# Altium integrated library Maxim Sensors.IntLib: 1171 symbols (part 23 of 61)
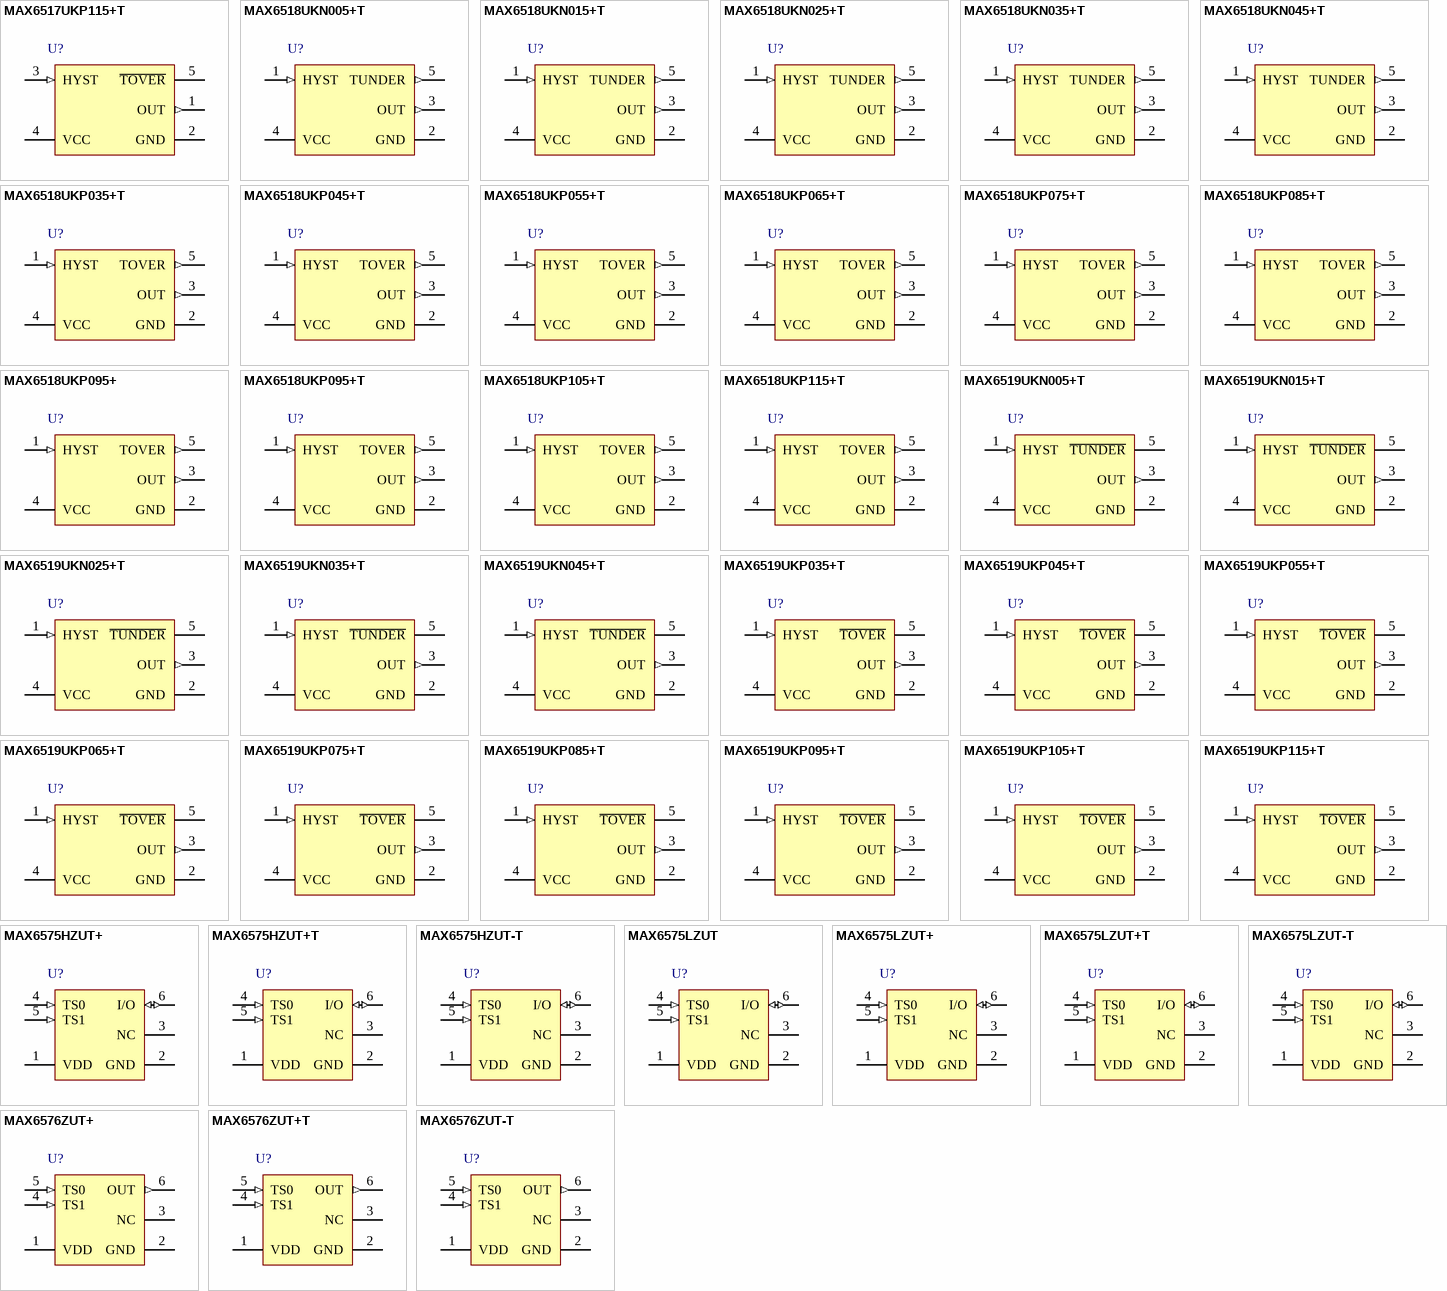
[diagram p55: symbols MAX6517UKP115+T to MAX6576ZUT-T]

## MAX6575LZUT+T
designator U?
Temperature Sensor with Multidrop Single Wire Digital Interface, -40 to 125 degC, 6-Pin SOT23 (U6+4), Pb-Free, Tape and Reel; Generic Part Number: MAX6575; PartNumber: MAX6575LZUT+T; Interface: Pulse Delay; Multi Droppable: Yes; Parasite Pwr.: No; DatasheetVersion: Rev. 0; PackageVersion: Rev. N, 08/2012; PackageReference: U6+4; PackageDescription: 6-Pin Small-Outline Transistor Package, Body 1.625 x 2.9 mm, Pitch 0.95 mm; Supplier 1: Digi-Key; Supplier Part Number 1: MAX6575LZUT+TTR-ND; Supplier 2: Digi-Key; Supplier Part Number 2: MAX6575LZUT+TCT-ND; Supplier 3: Digi-Key; Supplier Part Number 3: MAX6575LZUT+TDKR-ND; Supplier 4: Mouser; Supplier Part Number 4: 700-MAX6575LZUTT; Packing: Tape and Reel; Mounting Technology: Surface Mount; Code_JEDEC: MO-178; ComponentLink1Description: Manufacturer URL; ComponentLink1URL: http://www.maximintegrated.com/; ComponentLink2Description: Datasheet; ComponentLink2URL: http://datasheets.maximintegrated.com/en/ds/MAX6575H-MAX6575L.pdf; ComponentLink3Description: Package Specification; ComponentLink3URL: http://pdfserv.maximintegrated.com/package_dwgs/21-0058.PDF
footprint MAXM-U6+4_N (SOT23, 6-Leads, Body 2.9x1.625mm, Pitch 0.95mm, IPC Medium Density)
footprint MAXM-U6+4_L (SOT23, 6-Leads, Body 2.9x1.625mm, Pitch 0.95mm, IPC High Density)
footprint MAXM-U6+4_M (SOT23, 6-Leads, Body 2.9x1.625mm, Pitch 0.95mm, IPC Low Density)
pins: 1 VDD (power) "Positive Supply Voltage", 2 GND (power) "Ground", 3 NC "No Connection. Connect pin to GND or leave open.", 4 TS0 (in) "Time-Select Pins.Set the time delay factor by connecting TS1 and TS0 to either VDD or GND.", 5 TS1 (in) "Time-Select Pins.Set the time delay factor by connecting TS1 and TS0 to either VDD or GND.", 6 I/O (io) "Bidirectional Interface Pin. A time delay between when the part is initiated externally by pulling I/O low and when the part subsequently pulls I/O low, is proportional to absolute temperature (degreesK)."

## MAX6575LZUT-T
designator U?
Temperature Sensor with Multidrop Single Wire Digital Interface, -40 to 125 degC, 6-Pin SOT23 (U6-4), Tape and Reel; Generic Part Number: MAX6575; PartNumber: MAX6575LZUT-T; Interface: Pulse Delay; Multi Droppable: Yes; Parasite Pwr.: No; DatasheetVersion: Rev. 0; PackageVersion: Rev. N, 08/2012; PackageReference: U6-4; PackageDescription: 6-Pin Small-Outline Transistor Package, Body 1.625 x 2.9 mm, Pitch 0.95 mm; Supplier 1: Mouser; Supplier Part Number 1: N/A; Packing: Tape and Reel; Mounting Technology: Surface Mount; Code_JEDEC: MO-178; ComponentLink1Description: Manufacturer URL; ComponentLink1URL: http://www.maximintegrated.com/; ComponentLink2Description: Datasheet; ComponentLink2URL: http://datasheets.maximintegrated.com/en/ds/MAX6575H-MAX6575L.pdf; ComponentLink3Description: Package Specification; ComponentLink3URL: http://pdfserv.maximintegrated.com/package_dwgs/21-0058.PDF
footprint MAXM-U6-4_N (SOT23, 6-Leads, Body 2.9x1.625mm, Pitch 0.95mm, IPC Medium Density)
footprint MAXM-U6-4_L (SOT23, 6-Leads, Body 2.9x1.625mm, Pitch 0.95mm, IPC High Density)
footprint MAXM-U6-4_M (SOT23, 6-Leads, Body 2.9x1.625mm, Pitch 0.95mm, IPC Low Density)
pins: 1 VDD (power) "Positive Supply Voltage", 2 GND (power) "Ground", 3 NC "No Connection. Connect pin to GND or leave open.", 4 TS0 (in) "Time-Select Pins.Set the time delay factor by connecting TS1 and TS0 to either VDD or GND.", 5 TS1 (in) "Time-Select Pins.Set the time delay factor by connecting TS1 and TS0 to either VDD or GND.", 6 I/O (io) "Bidirectional Interface Pin. A time delay between when the part is initiated externally by pulling I/O low and when the part subsequently pulls I/O low, is proportional to absolute temperature (degreesK)."

## MAX6576ZUT+
designator U?
Temperature Sensor with Period Output, -40 to 125 degC, 6-Pin SOT23 (U6+4), Pb-Free; Generic Part Number: MAX6576; PartNumber: MAX6576ZUT+; Interface: Period u Temp.; Parasite Pwr.: No; DatasheetVersion: Rev. 0; PackageVersion: Rev. N, 08/2012; PackageReference: U6+4; PackageDescription: 6-Pin Small-Outline Transistor Package, Body 1.625 x 2.9 mm, Pitch 0.95 mm; Supplier 1: Mouser; Supplier Part Number 1: N/A; Mounting Technology: Surface Mount; Code_JEDEC: MO-178; ComponentLink1Description: Manufacturer URL; ComponentLink1URL: http://www.maximintegrated.com/; ComponentLink2Description: Datasheet; ComponentLink2URL: http://datasheets.maximintegrated.com/en/ds/MAX6576-MAX6577.pdf; ComponentLink3Description: Package Specification; ComponentLink3URL: http://pdfserv.maximintegrated.com/package_dwgs/21-0058.PDF
footprint MAXM-U6+4_N (SOT23, 6-Leads, Body 2.9x1.625mm, Pitch 0.95mm, IPC Medium Density)
footprint MAXM-U6+4_L (SOT23, 6-Leads, Body 2.9x1.625mm, Pitch 0.95mm, IPC High Density)
footprint MAXM-U6+4_M (SOT23, 6-Leads, Body 2.9x1.625mm, Pitch 0.95mm, IPC Low Density)
pins: 1 VDD (power) "Positive Supply Voltage", 2 GND (power) "Ground", 3 NC "No Connection. Connect pin to GND or leave open.", 4 TS1 (in) "Time-Select Pins. TS1 and TS0 set the temperature scale factor by connecting TS1 and TS0 to either VDD or GND.", 5 TS0 (in) "Time-Select Pins. TS1 and TS0 set the temperature scale factor by connecting TS1 and TS0 to either VDD or GND.", 6 OUT (out) "Square-Wave Output with a Clock Period Proportional to Absolute Temperature (degreesK) (MAX6576)"

## MAX6576ZUT+T
designator U?
Temperature Sensor with Period Output, -40 to 125 degC, 6-Pin SOT23 (U6+4), Pb-Free, Tape and Reel; Generic Part Number: MAX6576; PartNumber: MAX6576ZUT+T; Interface: Period u Temp.; Parasite Pwr.: No; DatasheetVersion: Rev. 0; PackageVersion: Rev. N, 08/2012; PackageReference: U6+4; PackageDescription: 6-Pin Small-Outline Transistor Package, Body 1.625 x 2.9 mm, Pitch 0.95 mm; Supplier 1: Digi-Key; Supplier Part Number 1: MAX6576ZUT+TTR-ND; Supplier 2: Digi-Key; Supplier Part Number 2: MAX6576ZUT+TCT-ND; Supplier 3: Digi-Key; Supplier Part Number 3: MAX6576ZUT+TDKR-ND; Supplier 4: Farnell; Supplier Part Number 4: 2085160; Supplier 5: Newark; Supplier Part Number 5: 89T8849; Supplier 6: Newark; Supplier Part Number 6: 68K9454; Supplier 7: Mouser; Supplier Part Number 7: 700-MAX6576ZUTT; Packing: Tape and Reel; Mounting Technology: Surface Mount; Code_JEDEC: MO-178; ComponentLink1Description: Manufacturer URL; ComponentLink1URL: http://www.maximintegrated.com/; ComponentLink2Description: Datasheet; ComponentLink2URL: http://datasheets.maximintegrated.com/en/ds/MAX6576-MAX6577.pdf; ComponentLink3Description: Package Specification; ComponentLink3URL: http://pdfserv.maximintegrated.com/package_dwgs/21-0058.PDF
footprint MAXM-U6+4_N (SOT23, 6-Leads, Body 2.9x1.625mm, Pitch 0.95mm, IPC Medium Density)
footprint MAXM-U6+4_L (SOT23, 6-Leads, Body 2.9x1.625mm, Pitch 0.95mm, IPC High Density)
footprint MAXM-U6+4_M (SOT23, 6-Leads, Body 2.9x1.625mm, Pitch 0.95mm, IPC Low Density)
pins: 1 VDD (power) "Positive Supply Voltage", 2 GND (power) "Ground", 3 NC "No Connection. Connect pin to GND or leave open.", 4 TS1 (in) "Time-Select Pins. TS1 and TS0 set the temperature scale factor by connecting TS1 and TS0 to either VDD or GND.", 5 TS0 (in) "Time-Select Pins. TS1 and TS0 set the temperature scale factor by connecting TS1 and TS0 to either VDD or GND.", 6 OUT (out) "Square-Wave Output with a Clock Period Proportional to Absolute Temperature (degreesK) (MAX6576)"

## MAX6576ZUT-T
designator U?
Temperature Sensor with Period Output, -40 to 125 degC, 6-Pin SOT23 (U6-4), Tape and Reel; Generic Part Number: MAX6576; PartNumber: MAX6576ZUT-T; Interface: Period u Temp.; Parasite Pwr.: No; DatasheetVersion: Rev. 0; PackageVersion: Rev. N, 08/2012; PackageReference: U6-4; PackageDescription: 6-Pin Small-Outline Transistor Package, Body 1.625 x 2.9 mm, Pitch 0.95 mm; Supplier 1: Mouser; Supplier Part Number 1: N/A; Packing: Tape and Reel; Mounting Technology: Surface Mount; Code_JEDEC: MO-178; ComponentLink1Description: Manufacturer URL; ComponentLink1URL: http://www.maximintegrated.com/; ComponentLink2Description: Datasheet; ComponentLink2URL: http://datasheets.maximintegrated.com/en/ds/MAX6576-MAX6577.pdf; ComponentLink3Description: Package Specification; ComponentLink3URL: http://pdfserv.maximintegrated.com/package_dwgs/21-0058.PDF
footprint MAXM-U6-4_N (SOT23, 6-Leads, Body 2.9x1.625mm, Pitch 0.95mm, IPC Medium Density)
footprint MAXM-U6-4_L (SOT23, 6-Leads, Body 2.9x1.625mm, Pitch 0.95mm, IPC High Density)
footprint MAXM-U6-4_M (SOT23, 6-Leads, Body 2.9x1.625mm, Pitch 0.95mm, IPC Low Density)
pins: 1 VDD (power) "Positive Supply Voltage", 2 GND (power) "Ground", 3 NC "No Connection. Connect pin to GND or leave open.", 4 TS1 (in) "Time-Select Pins. TS1 and TS0 set the temperature scale factor by connecting TS1 and TS0 to either VDD or GND.", 5 TS0 (in) "Time-Select Pins. TS1 and TS0 set the temperature scale factor by connecting TS1 and TS0 to either VDD or GND.", 6 OUT (out) "Square-Wave Output with a Clock Period Proportional to Absolute Temperature (degreesK) (MAX6576)"

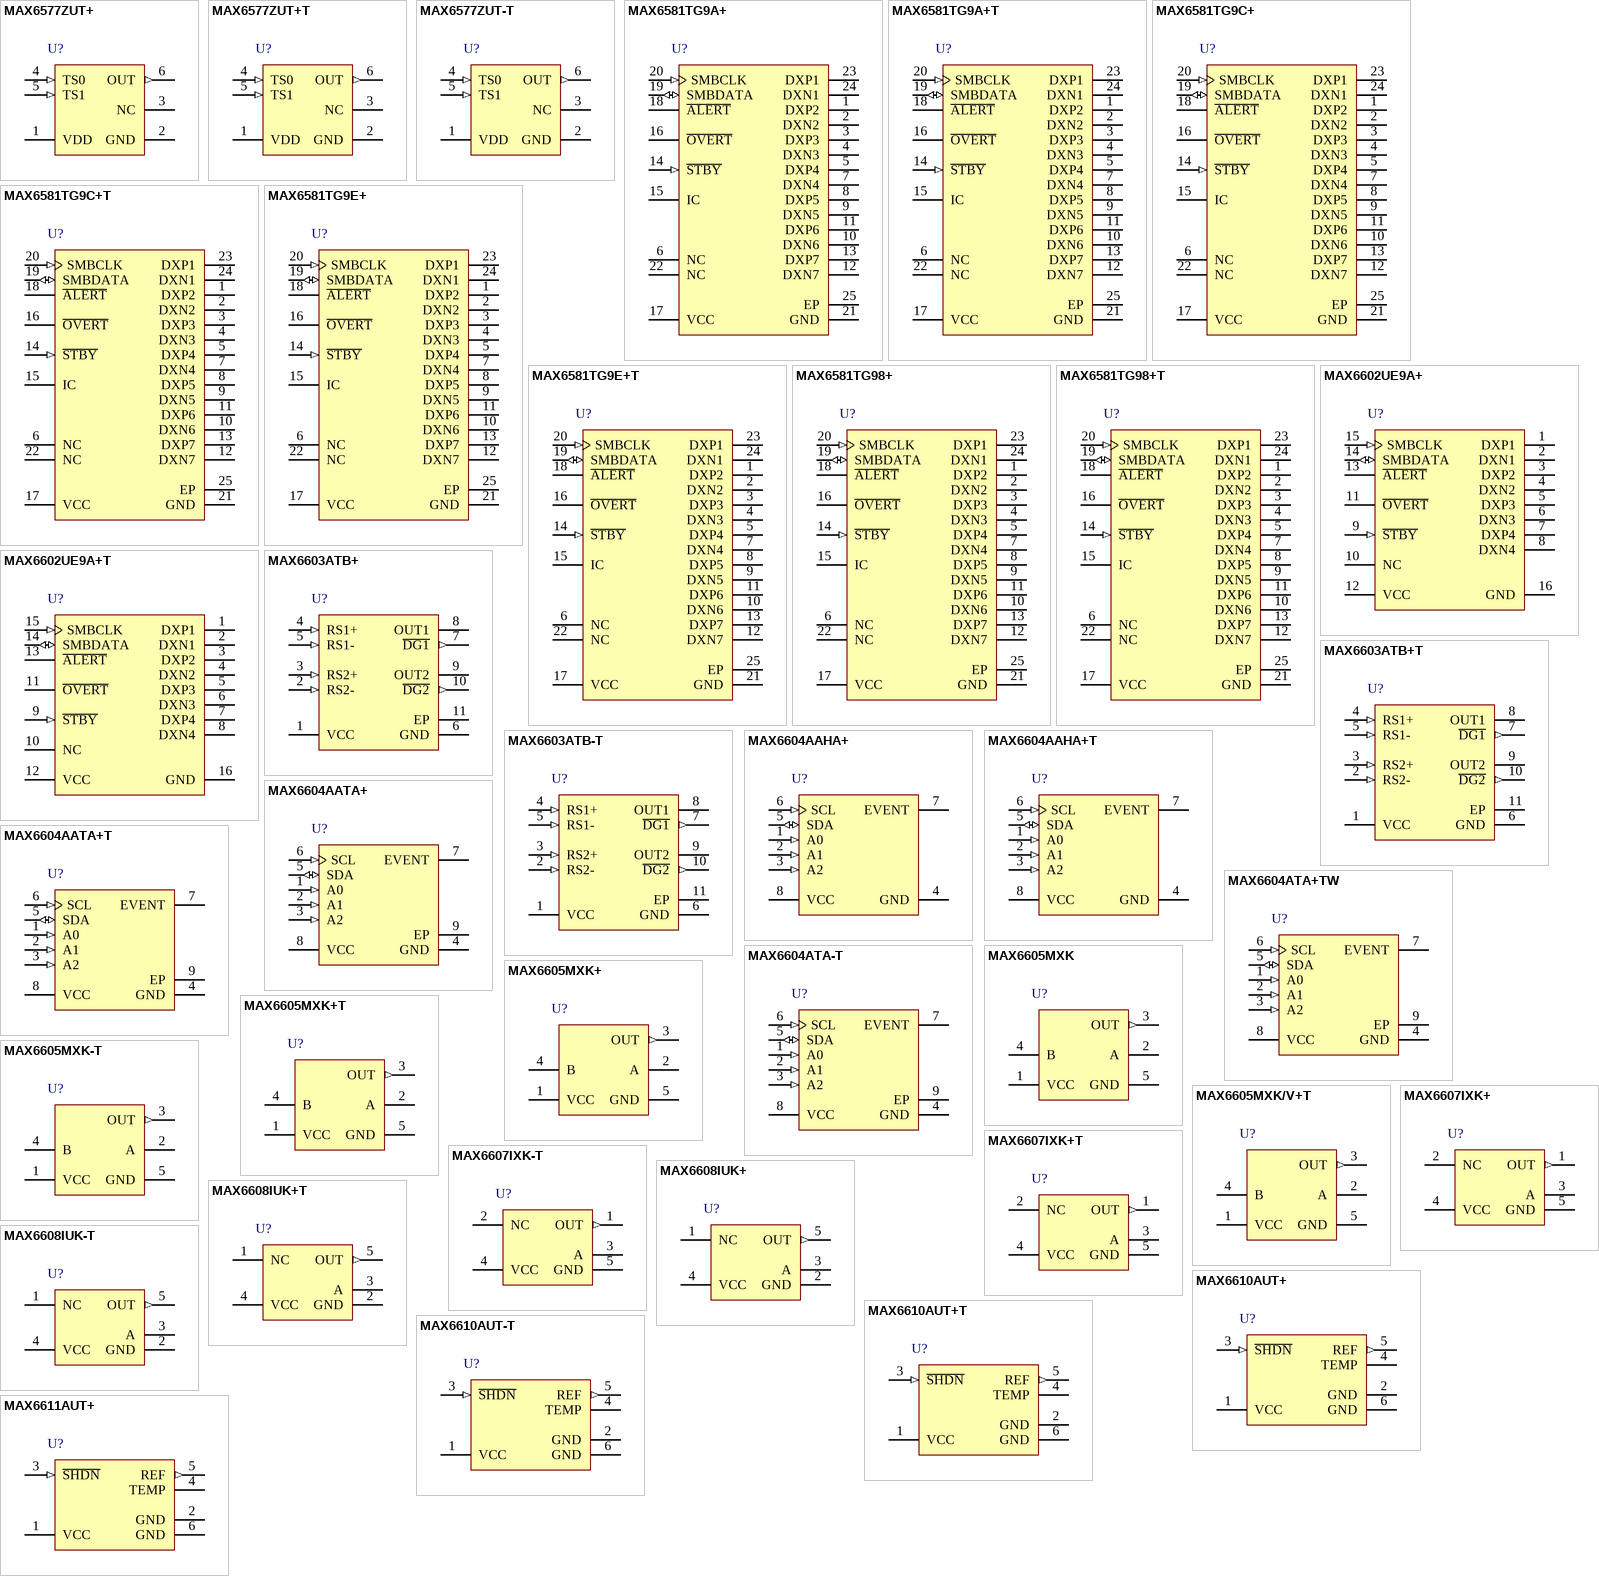
[diagram p14: symbols MAX6577ZUT+ to MAX6611AUT+]

## MAX6577ZUT+
designator U?
Temperature Sensor with Frequency Output, -40 to 125 degC, 6-Pin SOT23 (U6+4), Pb-Free; Generic Part Number: MAX6577; PartNumber: MAX6577ZUT+; Interface: Freq. u Temp.; Parasite Pwr.: No; DatasheetVersion: Rev. 0; PackageVersion: Rev. N, 08/2012; PackageReference: U6+4; PackageDescription: 6-Pin Small-Outline Transistor Package, Body 1.625 x 2.9 mm, Pitch 0.95 mm; Supplier 1: Mouser; Supplier Part Number 1: N/A; Mounting Technology: Surface Mount; Code_JEDEC: MO-178; ComponentLink1Description: Manufacturer URL; ComponentLink1URL: http://www.maximintegrated.com/; ComponentLink2Description: Datasheet; ComponentLink2URL: http://datasheets.maximintegrated.com/en/ds/MAX6576-MAX6577.pdf; ComponentLink3Description: Package Specification; ComponentLink3URL: http://pdfserv.maximintegrated.com/package_dwgs/21-0058.PDF
footprint MAXM-U6+4_N (SOT23, 6-Leads, Body 2.9x1.625mm, Pitch 0.95mm, IPC Medium Density)
footprint MAXM-U6+4_L (SOT23, 6-Leads, Body 2.9x1.625mm, Pitch 0.95mm, IPC High Density)
footprint MAXM-U6+4_M (SOT23, 6-Leads, Body 2.9x1.625mm, Pitch 0.95mm, IPC Low Density)
pins: 1 VDD (power) "Positive Supply Voltage", 2 GND (power) "Ground", 3 NC "No Connection. Connect pin to GND or leave open.", 4 TS0 (in) "Time-Select Pins. TS1 and TS0 set the temperature scale factor by connecting TS1 and TS0 to either VDD or GND. See Tables 1 and 2.", 5 TS1 (in) "Time-Select Pins. TS1 and TS0 set the temperature scale factor by connecting TS1 and TS0 to either VDD or GND. See Tables 1 and 2.", 6 OUT (out) "Square-Wave Output with a Clock Frequency Proportional to Absolute Temperature (degreesK) (MAX6577)"

## MAX6577ZUT+T
designator U?
Temperature Sensor with Frequency Output, -40 to 125 degC, 6-Pin SOT23 (U6+4), Pb-Free, Tape and Reel; Generic Part Number: MAX6577; PartNumber: MAX6577ZUT+T; Interface: Freq. u Temp.; Parasite Pwr.: No; DatasheetVersion: Rev. 0; PackageVersion: Rev. N, 08/2012; PackageReference: U6+4; PackageDescription: 6-Pin Small-Outline Transistor Package, Body 1.625 x 2.9 mm, Pitch 0.95 mm; Supplier 1: Digi-Key; Supplier Part Number 1: MAX6577ZUT+TTR-ND; Supplier 2: Digi-Key; Supplier Part Number 2: MAX6577ZUT+TCT-ND; Supplier 3: Digi-Key; Supplier Part Number 3: MAX6577ZUT+TDKR-ND; Supplier 4: Mouser; Supplier Part Number 4: 700-MAX6577ZUTT; Packing: Tape and Reel; Mounting Technology: Surface Mount; Code_JEDEC: MO-178; ComponentLink1Description: Manufacturer URL; ComponentLink1URL: http://www.maximintegrated.com/; ComponentLink2Description: Datasheet; ComponentLink2URL: http://datasheets.maximintegrated.com/en/ds/MAX6576-MAX6577.pdf; ComponentLink3Description: Package Specification; ComponentLink3URL: http://pdfserv.maximintegrated.com/package_dwgs/21-0058.PDF
footprint MAXM-U6+4_N (SOT23, 6-Leads, Body 2.9x1.625mm, Pitch 0.95mm, IPC Medium Density)
footprint MAXM-U6+4_L (SOT23, 6-Leads, Body 2.9x1.625mm, Pitch 0.95mm, IPC High Density)
footprint MAXM-U6+4_M (SOT23, 6-Leads, Body 2.9x1.625mm, Pitch 0.95mm, IPC Low Density)
pins: 1 VDD (power) "Positive Supply Voltage", 2 GND (power) "Ground", 3 NC "No Connection. Connect pin to GND or leave open.", 4 TS0 (in) "Time-Select Pins. TS1 and TS0 set the temperature scale factor by connecting TS1 and TS0 to either VDD or GND. See Tables 1 and 2.", 5 TS1 (in) "Time-Select Pins. TS1 and TS0 set the temperature scale factor by connecting TS1 and TS0 to either VDD or GND. See Tables 1 and 2.", 6 OUT (out) "Square-Wave Output with a Clock Frequency Proportional to Absolute Temperature (degreesK) (MAX6577)"

## MAX6577ZUT-T
designator U?
Temperature Sensor with Frequency Output, -40 to 125 degC, 6-Pin SOT23 (U6-4), Tape and Reel; Generic Part Number: MAX6577; PartNumber: MAX6577ZUT-T; Interface: Freq. u Temp.; Parasite Pwr.: No; DatasheetVersion: Rev. 0; PackageVersion: Rev. N, 08/2012; PackageReference: U6-4; PackageDescription: 6-Pin Small-Outline Transistor Package, Body 1.625 x 2.9 mm, Pitch 0.95 mm; Supplier 1: Digi-Key; Supplier Part Number 1: MAX6577ZUT-ND; Supplier 2: Mouser; Supplier Part Number 2: N/A; Packing: Tape and Reel; Mounting Technology: Surface Mount; Code_JEDEC: MO-178; ComponentLink1Description: Manufacturer URL; ComponentLink1URL: http://www.maximintegrated.com/; ComponentLink2Description: Datasheet; ComponentLink2URL: http://datasheets.maximintegrated.com/en/ds/MAX6576-MAX6577.pdf; ComponentLink3Description: Package Specification; ComponentLink3URL: http://pdfserv.maximintegrated.com/package_dwgs/21-0058.PDF
footprint MAXM-U6-4_N (SOT23, 6-Leads, Body 2.9x1.625mm, Pitch 0.95mm, IPC Medium Density)
footprint MAXM-U6-4_L (SOT23, 6-Leads, Body 2.9x1.625mm, Pitch 0.95mm, IPC High Density)
footprint MAXM-U6-4_M (SOT23, 6-Leads, Body 2.9x1.625mm, Pitch 0.95mm, IPC Low Density)
pins: 1 VDD (power) "Positive Supply Voltage", 2 GND (power) "Ground", 3 NC "No Connection. Connect pin to GND or leave open.", 4 TS0 (in) "Time-Select Pins. TS1 and TS0 set the temperature scale factor by connecting TS1 and TS0 to either VDD or GND. See Tables 1 and 2.", 5 TS1 (in) "Time-Select Pins. TS1 and TS0 set the temperature scale factor by connecting TS1 and TS0 to either VDD or GND. See Tables 1 and 2.", 6 OUT (out) "Square-Wave Output with a Clock Frequency Proportional to Absolute Temperature (degreesK) (MAX6577)"

## MAX6581TG9A+
designator U?
+ / -1 degC Accurate 8-Channel Temperature Sensor, 8, 11 Bits Temperature Resolution, -40 to 125 degC, 24-Pin QFN (T2444+4), Pb-Free; Generic Part Number: MAX6581; PartNumber: MAX6581TG9A+; Alarm Output: Alert, Overt; Functions: Dual Temperature Alarms, Multi-Channel Temperature Monitor ,Remote & Local Sensor; Interface: 2-Wire/I2C/SMBus; Parasite Pwr.: No; DatasheetVersion: Rev. 0; PackageVersion: Rev. L, 04/2012; PackageReference: T2444+4; PackageDescription: 24-Pin Thin Quad Flatpack, No Leads, Body 4 x 4 mm, Pitch 0.5 mm; Supplier 1: Digi-Key; Supplier Part Number 1: MAX6581TG9A+-ND; Supplier 2: Farnell; Supplier Part Number 2: 2212252; Supplier 3: Newark; Supplier Part Number 3: 45W6326; Supplier 4: Mouser; Supplier Part Number 4: 700-MAX6581TG9A+; Mounting Technology: Surface Mount; Code_JEDEC: MO-220; ComponentLink1Description: Manufacturer URL; ComponentLink1URL: http://www.maximintegrated.com/; ComponentLink2Description: Datasheet; ComponentLink2URL: http://datasheets.maximintegrated.com/en/ds/MAX6581.pdf; ComponentLink3Description: Package Specification; ComponentLink3URL: http://pdfserv.maximintegrated.com/package_dwgs/21-0139.PDF
footprint MAXM-T2444+4_N (QFN, 24-Leads, Body 4x3.9mm, Pitch 0.5mm, Thermal Pad 2.54x2.54mm, IPC Medium Density)
footprint MAXM-T2444+4_L (QFN, 24-Leads, Body 4x3.9mm, Pitch 0.5mm, Thermal Pad 2.54x2.54mm, IPC High Density)
footprint MAXM-T2444+4_M (QFN, 24-Leads, Body 4x3.9mm, Pitch 0.5mm, Thermal Pad 2.54x2.54mm, IPC Low Density)
pins: 1 DXP2 "Combined Current Source and ADC Positive Input for Channel 2 Remote Diode. Connect DXP2 to the anode of a remote-diode-connected, temperature-sensing transistor. Leave DXP2 unconnected or connect to DXN2 if a remote diode is (See Datasheet)", 2 DXN2 "Cathode Input for Channel 2 Remote Diode. Connect the cathode of the channel 2 remote-diodeconnected transistor to DXN2. If the channel 2 remote transistor is a substrate pnp (e.g., on a CPU die), connect the base of the pnp (See Datasheet)", 3 DXP3 "Combined Current Source and ADC Positive Input for Channel 3 Remote Diode. Connect DXP3 to the anode of a remote-diode-connected, temperature-sensing transistor. Leave DXP3 unconnected or connect to DXN3 if a remote diode is (See Datasheet)", 4 DXN3 "Cathode Input for Channel 3 Remote Diode. Connect the cathode of the channel 3 remote-diodeconnected transistor to DXN3. If the channel 3 remote transistor is a substrate pnp (e.g., on a CPU die), connect the base of the pnp (See Datasheet)", 5 DXP4 "Combined Current Source and ADC Positive Input for Channel 4 Remote Diode. Connect DXP4 to the anode of a remote-diode-connected, temperature-sensing transistor. Leave DXP4 unconnected or connect to DXN4 if a remote diode is (See Datasheet)", 6 NC "No Connection. Connect to other N.C. or leave unconnected", 7 DXN4 "Cathode Input for Channel 4 Remote Diode. Connect the cathode of the channel 4 remote-diodeconnected transistor to DXN4. If the channel 4 remote transistor is a substrate pnp (e.g., on a CPU die), connect the base of the pnp (See Datasheet)", 8 DXP5 "Combined Current Source and ADC Positive Input for Channel 5 Remote Diode. Connect DXP5 to the anode of a remote-diode-connected, temperature-sensing transistor. Leave DXP5 unconnected or connect to DXN5 if a remote diode is (See Datasheet)", 9 DXN5 "Cathode Input for Channel 5 Remote Diode. Connect the cathode of the channel 5 remote-diodeconnected transistor to DXN5. If the channel 5 remote transistor is a substrate pnp (e.g., on a CPU die), connect the base of the pnp (See Datasheet)", 10 DXN6 "Cathode Input for Channel 6 Remote Diode. Connect the cathode of the channel 6 remote-diodeconnected transistor to DXN6. If the channel 6 remote transistor is a substrate pnp (e.g., on a CPU die), connect the base of the pnp (See Datasheet)", 11 DXP6 "Combined Current Source and ADC Positive Input for Channel 6 Remote Diode. Connect DXP6 to the anode of a remote-diode-connected, temperature-sensing transistor. Leave DXP6 unconnected or connect to DXN6 if a remote diode is (See Datasheet)", 12 DXN7 "Cathode Input for Channel 7 Remote Diode. Connect the cathode of the channel 7 remote-diodeconnected transistor to DXN7. If the channel 7 remote transistor is a substrate pnp (e.g., on a CPU die), connect the base of the pnp (See Datasheet)", 13 DXP7 "Combined Current Source and ADC Positive Input for Channel 7 Remote Diode. Connect DXP7 to the anode of a remote-diode-connected, temperature-sensing transistor. Leave DXP7 unconnected or connect to DXN7 if a remote diode is (See Datasheet)", 14 ~{STBY} (in) "Active-Low Standby Input. Drive S\T\B\Y\ logic-low to place the MAX6581 in standby mode, or logichigh for normal mode. Temperature and threshold data are retained in standby mode.", 15 IC "Internally Connected. I.C. is internally connected to VCC. Connect I.C. to VCC or leave unconnected", 16 ~{OVERT} (oc) "Overtemperature Active-Low, Open-Drain Output. O\V\E\R\T\ asserts low when the temperature of any remote channel exceeds the programmed threshold limit.", 17 VCC (power) "Supply Voltage Input. Bypass to GND with a 0.1FF capacitor.", 18 ~{ALERT} (oc) "SMBus Alert (Interrupt), Active-Low, Open-Drain Output. A\L\E\R\T\ asserts low when the temperature of any channel crosses a programmed A\L\E\R\T\ high or low threshold.", 19 SMBDATA (io) "SMBus Serial-Data Input/Output. Connect SMBDATA to a pullup resistor.", 20 SMBCLK (in) "SMBus Serial-Clock Input. Connect SMBCLK to a pullup resistor.", 21 GND (power) "Ground", 22 NC "No Connection. Connect to other N.C. or leave unconnected", 23 DXP1 "Combined Current Source and ADC Positive Input for Channel 1 Remote Diode. Connect DXP1 to the anode of a remote-diode-connected, temperature-sensing transistor. Leave DXP1 unconnected or connect to DXN1 if a remote diode is (See Datasheet)", 24 DXN1 "Cathode Input for Channel 1 Remote Diode. Connect the cathode of the channel 1 remote-diodeconnected transistor to DXN1. If the channel 1 remote transistor is a substrate pnp (e.g., on a CPU die), connect the base of the pnp (See Datasheet)", 25 EP (power) "Exposed Pad. Connect EP to GND"

## MAX6581TG9A+T
designator U?
+ / -1 degC Accurate 8-Channel Temperature Sensor, 8, 11 Bits Temperature Resolution, -40 to 125 degC, 24-Pin QFN (T2444+4), Pb-Free, Tape and Reel; Generic Part Number: MAX6581; PartNumber: MAX6581TG9A+T; Alarm Output: Alert, Overt; Functions: Dual Temperature Alarms, Multi-Channel Temperature Monitor ,Remote & Local Sensor; Interface: 2-Wire/I2C/SMBus; Parasite Pwr.: No; DatasheetVersion: Rev. 0; PackageVersion: Rev. L, 04/2012; PackageReference: T2444+4; PackageDescription: 24-Pin Thin Quad Flatpack, No Leads, Body 4 x 4 mm, Pitch 0.5 mm; Supplier 1: Digi-Key; Supplier Part Number 1: MAX6581TG9A+T-ND; Supplier 2: Mouser; Supplier Part Number 2: 700-MAX6581TG9A+T; Packing: Tape and Reel; Mounting Technology: Surface Mount; Code_JEDEC: MO-220; ComponentLink1Description: Manufacturer URL; ComponentLink1URL: http://www.maximintegrated.com/; ComponentLink2Description: Datasheet; ComponentLink2URL: http://datasheets.maximintegrated.com/en/ds/MAX6581.pdf; ComponentLink3Description: Package Specification; ComponentLink3URL: http://pdfserv.maximintegrated.com/package_dwgs/21-0139.PDF
footprint MAXM-T2444+4_N (QFN, 24-Leads, Body 4x3.9mm, Pitch 0.5mm, Thermal Pad 2.54x2.54mm, IPC Medium Density)
footprint MAXM-T2444+4_L (QFN, 24-Leads, Body 4x3.9mm, Pitch 0.5mm, Thermal Pad 2.54x2.54mm, IPC High Density)
footprint MAXM-T2444+4_M (QFN, 24-Leads, Body 4x3.9mm, Pitch 0.5mm, Thermal Pad 2.54x2.54mm, IPC Low Density)
pins: 1 DXP2 "Combined Current Source and ADC Positive Input for Channel 2 Remote Diode. Connect DXP2 to the anode of a remote-diode-connected, temperature-sensing transistor. Leave DXP2 unconnected or connect to DXN2 if a remote diode is (See Datasheet)", 2 DXN2 "Cathode Input for Channel 2 Remote Diode. Connect the cathode of the channel 2 remote-diodeconnected transistor to DXN2. If the channel 2 remote transistor is a substrate pnp (e.g., on a CPU die), connect the base of the pnp (See Datasheet)", 3 DXP3 "Combined Current Source and ADC Positive Input for Channel 3 Remote Diode. Connect DXP3 to the anode of a remote-diode-connected, temperature-sensing transistor. Leave DXP3 unconnected or connect to DXN3 if a remote diode is (See Datasheet)", 4 DXN3 "Cathode Input for Channel 3 Remote Diode. Connect the cathode of the channel 3 remote-diodeconnected transistor to DXN3. If the channel 3 remote transistor is a substrate pnp (e.g., on a CPU die), connect the base of the pnp (See Datasheet)", 5 DXP4 "Combined Current Source and ADC Positive Input for Channel 4 Remote Diode. Connect DXP4 to the anode of a remote-diode-connected, temperature-sensing transistor. Leave DXP4 unconnected or connect to DXN4 if a remote diode is (See Datasheet)", 6 NC "No Connection. Connect to other N.C. or leave unconnected", 7 DXN4 "Cathode Input for Channel 4 Remote Diode. Connect the cathode of the channel 4 remote-diodeconnected transistor to DXN4. If the channel 4 remote transistor is a substrate pnp (e.g., on a CPU die), connect the base of the pnp (See Datasheet)", 8 DXP5 "Combined Current Source and ADC Positive Input for Channel 5 Remote Diode. Connect DXP5 to the anode of a remote-diode-connected, temperature-sensing transistor. Leave DXP5 unconnected or connect to DXN5 if a remote diode is (See Datasheet)", 9 DXN5 "Cathode Input for Channel 5 Remote Diode. Connect the cathode of the channel 5 remote-diodeconnected transistor to DXN5. If the channel 5 remote transistor is a substrate pnp (e.g., on a CPU die), connect the base of the pnp (See Datasheet)", 10 DXN6 "Cathode Input for Channel 6 Remote Diode. Connect the cathode of the channel 6 remote-diodeconnected transistor to DXN6. If the channel 6 remote transistor is a substrate pnp (e.g., on a CPU die), connect the base of the pnp (See Datasheet)", 11 DXP6 "Combined Current Source and ADC Positive Input for Channel 6 Remote Diode. Connect DXP6 to the anode of a remote-diode-connected, temperature-sensing transistor. Leave DXP6 unconnected or connect to DXN6 if a remote diode is (See Datasheet)", 12 DXN7 "Cathode Input for Channel 7 Remote Diode. Connect the cathode of the channel 7 remote-diodeconnected transistor to DXN7. If the channel 7 remote transistor is a substrate pnp (e.g., on a CPU die), connect the base of the pnp (See Datasheet)", 13 DXP7 "Combined Current Source and ADC Positive Input for Channel 7 Remote Diode. Connect DXP7 to the anode of a remote-diode-connected, temperature-sensing transistor. Leave DXP7 unconnected or connect to DXN7 if a remote diode is (See Datasheet)", 14 ~{STBY} (in) "Active-Low Standby Input. Drive S\T\B\Y\ logic-low to place the MAX6581 in standby mode, or logichigh for normal mode. Temperature and threshold data are retained in standby mode.", 15 IC "Internally Connected. I.C. is internally connected to VCC. Connect I.C. to VCC or leave unconnected", 16 ~{OVERT} (oc) "Overtemperature Active-Low, Open-Drain Output. O\V\E\R\T\ asserts low when the temperature of any remote channel exceeds the programmed threshold limit.", 17 VCC (power) "Supply Voltage Input. Bypass to GND with a 0.1FF capacitor.", 18 ~{ALERT} (oc) "SMBus Alert (Interrupt), Active-Low, Open-Drain Output. A\L\E\R\T\ asserts low when the temperature of any channel crosses a programmed A\L\E\R\T\ high or low threshold.", 19 SMBDATA (io) "SMBus Serial-Data Input/Output. Connect SMBDATA to a pullup resistor.", 20 SMBCLK (in) "SMBus Serial-Clock Input. Connect SMBCLK to a pullup resistor.", 21 GND (power) "Ground", 22 NC "No Connection. Connect to other N.C. or leave unconnected", 23 DXP1 "Combined Current Source and ADC Positive Input for Channel 1 Remote Diode. Connect DXP1 to the anode of a remote-diode-connected, temperature-sensing transistor. Leave DXP1 unconnected or connect to DXN1 if a remote diode is (See Datasheet)", 24 DXN1 "Cathode Input for Channel 1 Remote Diode. Connect the cathode of the channel 1 remote-diodeconnected transistor to DXN1. If the channel 1 remote transistor is a substrate pnp (e.g., on a CPU die), connect the base of the pnp (See Datasheet)", 25 EP (power) "Exposed Pad. Connect EP to GND"

## MAX6581TG9C+
designator U?
+ / -1 degC Accurate 8-Channel Temperature Sensor, 8, 11 Bits Temperature Resolution, -40 to 125 degC, 24-Pin QFN (T2444+4), Pb-Free; Generic Part Number: MAX6581; PartNumber: MAX6581TG9C+; Alarm Output: Alert, Overt; Functions: Dual Temperature Alarms, Multi-Channel Temperature Monitor ,Remote & Local Sensor; Interface: 2-Wire/I2C/SMBus; Parasite Pwr.: No; DatasheetVersion: Rev. 0; PackageVersion: Rev. L, 04/2012; PackageReference: T2444+4; PackageDescription: 24-Pin Thin Quad Flatpack, No Leads, Body 4 x 4 mm, Pitch 0.5 mm; Supplier 1: Digi-Key; Supplier Part Number 1: MAX6581TG9C+-ND; Supplier 2: Mouser; Supplier Part Number 2: 700-MAX6581TG9C+; Mounting Technology: Surface Mount; Code_JEDEC: MO-220; ComponentLink1Description: Manufacturer URL; ComponentLink1URL: http://www.maximintegrated.com/; ComponentLink2Description: Datasheet; ComponentLink2URL: http://datasheets.maximintegrated.com/en/ds/MAX6581.pdf; ComponentLink3Description: Package Specification; ComponentLink3URL: http://pdfserv.maximintegrated.com/package_dwgs/21-0139.PDF
footprint MAXM-T2444+4_N (QFN, 24-Leads, Body 4x3.9mm, Pitch 0.5mm, Thermal Pad 2.54x2.54mm, IPC Medium Density)
footprint MAXM-T2444+4_L (QFN, 24-Leads, Body 4x3.9mm, Pitch 0.5mm, Thermal Pad 2.54x2.54mm, IPC High Density)
footprint MAXM-T2444+4_M (QFN, 24-Leads, Body 4x3.9mm, Pitch 0.5mm, Thermal Pad 2.54x2.54mm, IPC Low Density)
pins: 1 DXP2 "Combined Current Source and ADC Positive Input for Channel 2 Remote Diode. Connect DXP2 to the anode of a remote-diode-connected, temperature-sensing transistor. Leave DXP2 unconnected or connect to DXN2 if a remote diode is (See Datasheet)", 2 DXN2 "Cathode Input for Channel 2 Remote Diode. Connect the cathode of the channel 2 remote-diodeconnected transistor to DXN2. If the channel 2 remote transistor is a substrate pnp (e.g., on a CPU die), connect the base of the pnp (See Datasheet)", 3 DXP3 "Combined Current Source and ADC Positive Input for Channel 3 Remote Diode. Connect DXP3 to the anode of a remote-diode-connected, temperature-sensing transistor. Leave DXP3 unconnected or connect to DXN3 if a remote diode is (See Datasheet)", 4 DXN3 "Cathode Input for Channel 3 Remote Diode. Connect the cathode of the channel 3 remote-diodeconnected transistor to DXN3. If the channel 3 remote transistor is a substrate pnp (e.g., on a CPU die), connect the base of the pnp (See Datasheet)", 5 DXP4 "Combined Current Source and ADC Positive Input for Channel 4 Remote Diode. Connect DXP4 to the anode of a remote-diode-connected, temperature-sensing transistor. Leave DXP4 unconnected or connect to DXN4 if a remote diode is (See Datasheet)", 6 NC "No Connection. Connect to other N.C. or leave unconnected", 7 DXN4 "Cathode Input for Channel 4 Remote Diode. Connect the cathode of the channel 4 remote-diodeconnected transistor to DXN4. If the channel 4 remote transistor is a substrate pnp (e.g., on a CPU die), connect the base of the pnp (See Datasheet)", 8 DXP5 "Combined Current Source and ADC Positive Input for Channel 5 Remote Diode. Connect DXP5 to the anode of a remote-diode-connected, temperature-sensing transistor. Leave DXP5 unconnected or connect to DXN5 if a remote diode is (See Datasheet)", 9 DXN5 "Cathode Input for Channel 5 Remote Diode. Connect the cathode of the channel 5 remote-diodeconnected transistor to DXN5. If the channel 5 remote transistor is a substrate pnp (e.g., on a CPU die), connect the base of the pnp (See Datasheet)", 10 DXN6 "Cathode Input for Channel 6 Remote Diode. Connect the cathode of the channel 6 remote-diodeconnected transistor to DXN6. If the channel 6 remote transistor is a substrate pnp (e.g., on a CPU die), connect the base of the pnp (See Datasheet)", 11 DXP6 "Combined Current Source and ADC Positive Input for Channel 6 Remote Diode. Connect DXP6 to the anode of a remote-diode-connected, temperature-sensing transistor. Leave DXP6 unconnected or connect to DXN6 if a remote diode is (See Datasheet)", 12 DXN7 "Cathode Input for Channel 7 Remote Diode. Connect the cathode of the channel 7 remote-diodeconnected transistor to DXN7. If the channel 7 remote transistor is a substrate pnp (e.g., on a CPU die), connect the base of the pnp (See Datasheet)", 13 DXP7 "Combined Current Source and ADC Positive Input for Channel 7 Remote Diode. Connect DXP7 to the anode of a remote-diode-connected, temperature-sensing transistor. Leave DXP7 unconnected or connect to DXN7 if a remote diode is (See Datasheet)", 14 ~{STBY} (in) "Active-Low Standby Input. Drive S\T\B\Y\ logic-low to place the MAX6581 in standby mode, or logichigh for normal mode. Temperature and threshold data are retained in standby mode.", 15 IC "Internally Connected. I.C. is internally connected to VCC. Connect I.C. to VCC or leave unconnected", 16 ~{OVERT} (oc) "Overtemperature Active-Low, Open-Drain Output. O\V\E\R\T\ asserts low when the temperature of any remote channel exceeds the programmed threshold limit.", 17 VCC (power) "Supply Voltage Input. Bypass to GND with a 0.1FF capacitor.", 18 ~{ALERT} (oc) "SMBus Alert (Interrupt), Active-Low, Open-Drain Output. A\L\E\R\T\ asserts low when the temperature of any channel crosses a programmed A\L\E\R\T\ high or low threshold.", 19 SMBDATA (io) "SMBus Serial-Data Input/Output. Connect SMBDATA to a pullup resistor.", 20 SMBCLK (in) "SMBus Serial-Clock Input. Connect SMBCLK to a pullup resistor.", 21 GND (power) "Ground", 22 NC "No Connection. Connect to other N.C. or leave unconnected", 23 DXP1 "Combined Current Source and ADC Positive Input for Channel 1 Remote Diode. Connect DXP1 to the anode of a remote-diode-connected, temperature-sensing transistor. Leave DXP1 unconnected or connect to DXN1 if a remote diode is (See Datasheet)", 24 DXN1 "Cathode Input for Channel 1 Remote Diode. Connect the cathode of the channel 1 remote-diodeconnected transistor to DXN1. If the channel 1 remote transistor is a substrate pnp (e.g., on a CPU die), connect the base of the pnp (See Datasheet)", 25 EP (power) "Exposed Pad. Connect EP to GND"

## MAX6581TG9C+T
designator U?
+ / -1 degC Accurate 8-Channel Temperature Sensor, 8, 11 Bits Temperature Resolution, -40 to 125 degC, 24-Pin QFN (T2444+4), Pb-Free, Tape and Reel; Generic Part Number: MAX6581; PartNumber: MAX6581TG9C+T; Alarm Output: Alert, Overt; Functions: Dual Temperature Alarms, Multi-Channel Temperature Monitor ,Remote & Local Sensor; Interface: 2-Wire/I2C/SMBus; Parasite Pwr.: No; DatasheetVersion: Rev. 0; PackageVersion: Rev. L, 04/2012; PackageReference: T2444+4; PackageDescription: 24-Pin Thin Quad Flatpack, No Leads, Body 4 x 4 mm, Pitch 0.5 mm; Supplier 1: Digi-Key; Supplier Part Number 1: MAX6581TG9C+T-ND; Supplier 2: Mouser; Supplier Part Number 2: 700-MAX6581TG9C+T; Packing: Tape and Reel; Mounting Technology: Surface Mount; Code_JEDEC: MO-220; ComponentLink1Description: Manufacturer URL; ComponentLink1URL: http://www.maximintegrated.com/; ComponentLink2Description: Datasheet; ComponentLink2URL: http://datasheets.maximintegrated.com/en/ds/MAX6581.pdf; ComponentLink3Description: Package Specification; ComponentLink3URL: http://pdfserv.maximintegrated.com/package_dwgs/21-0139.PDF
footprint MAXM-T2444+4_N (QFN, 24-Leads, Body 4x3.9mm, Pitch 0.5mm, Thermal Pad 2.54x2.54mm, IPC Medium Density)
footprint MAXM-T2444+4_L (QFN, 24-Leads, Body 4x3.9mm, Pitch 0.5mm, Thermal Pad 2.54x2.54mm, IPC High Density)
footprint MAXM-T2444+4_M (QFN, 24-Leads, Body 4x3.9mm, Pitch 0.5mm, Thermal Pad 2.54x2.54mm, IPC Low Density)
pins: 1 DXP2 "Combined Current Source and ADC Positive Input for Channel 2 Remote Diode. Connect DXP2 to the anode of a remote-diode-connected, temperature-sensing transistor. Leave DXP2 unconnected or connect to DXN2 if a remote diode is (See Datasheet)", 2 DXN2 "Cathode Input for Channel 2 Remote Diode. Connect the cathode of the channel 2 remote-diodeconnected transistor to DXN2. If the channel 2 remote transistor is a substrate pnp (e.g., on a CPU die), connect the base of the pnp (See Datasheet)", 3 DXP3 "Combined Current Source and ADC Positive Input for Channel 3 Remote Diode. Connect DXP3 to the anode of a remote-diode-connected, temperature-sensing transistor. Leave DXP3 unconnected or connect to DXN3 if a remote diode is (See Datasheet)", 4 DXN3 "Cathode Input for Channel 3 Remote Diode. Connect the cathode of the channel 3 remote-diodeconnected transistor to DXN3. If the channel 3 remote transistor is a substrate pnp (e.g., on a CPU die), connect the base of the pnp (See Datasheet)", 5 DXP4 "Combined Current Source and ADC Positive Input for Channel 4 Remote Diode. Connect DXP4 to the anode of a remote-diode-connected, temperature-sensing transistor. Leave DXP4 unconnected or connect to DXN4 if a remote diode is (See Datasheet)", 6 NC "No Connection. Connect to other N.C. or leave unconnected", 7 DXN4 "Cathode Input for Channel 4 Remote Diode. Connect the cathode of the channel 4 remote-diodeconnected transistor to DXN4. If the channel 4 remote transistor is a substrate pnp (e.g., on a CPU die), connect the base of the pnp (See Datasheet)", 8 DXP5 "Combined Current Source and ADC Positive Input for Channel 5 Remote Diode. Connect DXP5 to the anode of a remote-diode-connected, temperature-sensing transistor. Leave DXP5 unconnected or connect to DXN5 if a remote diode is (See Datasheet)", 9 DXN5 "Cathode Input for Channel 5 Remote Diode. Connect the cathode of the channel 5 remote-diodeconnected transistor to DXN5. If the channel 5 remote transistor is a substrate pnp (e.g., on a CPU die), connect the base of the pnp (See Datasheet)", 10 DXN6 "Cathode Input for Channel 6 Remote Diode. Connect the cathode of the channel 6 remote-diodeconnected transistor to DXN6. If the channel 6 remote transistor is a substrate pnp (e.g., on a CPU die), connect the base of the pnp (See Datasheet)", 11 DXP6 "Combined Current Source and ADC Positive Input for Channel 6 Remote Diode. Connect DXP6 to the anode of a remote-diode-connected, temperature-sensing transistor. Leave DXP6 unconnected or connect to DXN6 if a remote diode is (See Datasheet)", 12 DXN7 "Cathode Input for Channel 7 Remote Diode. Connect the cathode of the channel 7 remote-diodeconnected transistor to DXN7. If the channel 7 remote transistor is a substrate pnp (e.g., on a CPU die), connect the base of the pnp (See Datasheet)", 13 DXP7 "Combined Current Source and ADC Positive Input for Channel 7 Remote Diode. Connect DXP7 to the anode of a remote-diode-connected, temperature-sensing transistor. Leave DXP7 unconnected or connect to DXN7 if a remote diode is (See Datasheet)", 14 ~{STBY} (in) "Active-Low Standby Input. Drive S\T\B\Y\ logic-low to place the MAX6581 in standby mode, or logichigh for normal mode. Temperature and threshold data are retained in standby mode.", 15 IC "Internally Connected. I.C. is internally connected to VCC. Connect I.C. to VCC or leave unconnected", 16 ~{OVERT} (oc) "Overtemperature Active-Low, Open-Drain Output. O\V\E\R\T\ asserts low when the temperature of any remote channel exceeds the programmed threshold limit.", 17 VCC (power) "Supply Voltage Input. Bypass to GND with a 0.1FF capacitor.", 18 ~{ALERT} (oc) "SMBus Alert (Interrupt), Active-Low, Open-Drain Output. A\L\E\R\T\ asserts low when the temperature of any channel crosses a programmed A\L\E\R\T\ high or low threshold.", 19 SMBDATA (io) "SMBus Serial-Data Input/Output. Connect SMBDATA to a pullup resistor.", 20 SMBCLK (in) "SMBus Serial-Clock Input. Connect SMBCLK to a pullup resistor.", 21 GND (power) "Ground", 22 NC "No Connection. Connect to other N.C. or leave unconnected", 23 DXP1 "Combined Current Source and ADC Positive Input for Channel 1 Remote Diode. Connect DXP1 to the anode of a remote-diode-connected, temperature-sensing transistor. Leave DXP1 unconnected or connect to DXN1 if a remote diode is (See Datasheet)", 24 DXN1 "Cathode Input for Channel 1 Remote Diode. Connect the cathode of the channel 1 remote-diodeconnected transistor to DXN1. If the channel 1 remote transistor is a substrate pnp (e.g., on a CPU die), connect the base of the pnp (See Datasheet)", 25 EP (power) "Exposed Pad. Connect EP to GND"

## MAX6581TG9E+
designator U?
+ / -1 degC Accurate 8-Channel Temperature Sensor, 8, 11 Bits Temperature Resolution, -40 to 125 degC, 24-Pin QFN (T2444+4), Pb-Free; Generic Part Number: MAX6581; PartNumber: MAX6581TG9E+; Alarm Output: Alert, Overt; Functions: Dual Temperature Alarms, Multi-Channel Temperature Monitor ,Remote & Local Sensor; Interface: 2-Wire/I2C/SMBus; Parasite Pwr.: No; DatasheetVersion: Rev. 0; PackageVersion: Rev. L, 04/2012; PackageReference: T2444+4; PackageDescription: 24-Pin Thin Quad Flatpack, No Leads, Body 4 x 4 mm, Pitch 0.5 mm; Supplier 1: Digi-Key; Supplier Part Number 1: MAX6581TG9E+-ND; Supplier 2: Mouser; Supplier Part Number 2: 700-MAX6581TG9E+; Mounting Technology: Surface Mount; Code_JEDEC: MO-220; ComponentLink1Description: Manufacturer URL; ComponentLink1URL: http://www.maximintegrated.com/; ComponentLink2Description: Datasheet; ComponentLink2URL: http://datasheets.maximintegrated.com/en/ds/MAX6581.pdf; ComponentLink3Description: Package Specification; ComponentLink3URL: http://pdfserv.maximintegrated.com/package_dwgs/21-0139.PDF
footprint MAXM-T2444+4_N (QFN, 24-Leads, Body 4x3.9mm, Pitch 0.5mm, Thermal Pad 2.54x2.54mm, IPC Medium Density)
footprint MAXM-T2444+4_L (QFN, 24-Leads, Body 4x3.9mm, Pitch 0.5mm, Thermal Pad 2.54x2.54mm, IPC High Density)
footprint MAXM-T2444+4_M (QFN, 24-Leads, Body 4x3.9mm, Pitch 0.5mm, Thermal Pad 2.54x2.54mm, IPC Low Density)
pins: 1 DXP2 "Combined Current Source and ADC Positive Input for Channel 2 Remote Diode. Connect DXP2 to the anode of a remote-diode-connected, temperature-sensing transistor. Leave DXP2 unconnected or connect to DXN2 if a remote diode is (See Datasheet)", 2 DXN2 "Cathode Input for Channel 2 Remote Diode. Connect the cathode of the channel 2 remote-diodeconnected transistor to DXN2. If the channel 2 remote transistor is a substrate pnp (e.g., on a CPU die), connect the base of the pnp (See Datasheet)", 3 DXP3 "Combined Current Source and ADC Positive Input for Channel 3 Remote Diode. Connect DXP3 to the anode of a remote-diode-connected, temperature-sensing transistor. Leave DXP3 unconnected or connect to DXN3 if a remote diode is (See Datasheet)", 4 DXN3 "Cathode Input for Channel 3 Remote Diode. Connect the cathode of the channel 3 remote-diodeconnected transistor to DXN3. If the channel 3 remote transistor is a substrate pnp (e.g., on a CPU die), connect the base of the pnp (See Datasheet)", 5 DXP4 "Combined Current Source and ADC Positive Input for Channel 4 Remote Diode. Connect DXP4 to the anode of a remote-diode-connected, temperature-sensing transistor. Leave DXP4 unconnected or connect to DXN4 if a remote diode is (See Datasheet)", 6 NC "No Connection. Connect to other N.C. or leave unconnected", 7 DXN4 "Cathode Input for Channel 4 Remote Diode. Connect the cathode of the channel 4 remote-diodeconnected transistor to DXN4. If the channel 4 remote transistor is a substrate pnp (e.g., on a CPU die), connect the base of the pnp (See Datasheet)", 8 DXP5 "Combined Current Source and ADC Positive Input for Channel 5 Remote Diode. Connect DXP5 to the anode of a remote-diode-connected, temperature-sensing transistor. Leave DXP5 unconnected or connect to DXN5 if a remote diode is (See Datasheet)", 9 DXN5 "Cathode Input for Channel 5 Remote Diode. Connect the cathode of the channel 5 remote-diodeconnected transistor to DXN5. If the channel 5 remote transistor is a substrate pnp (e.g., on a CPU die), connect the base of the pnp (See Datasheet)", 10 DXN6 "Cathode Input for Channel 6 Remote Diode. Connect the cathode of the channel 6 remote-diodeconnected transistor to DXN6. If the channel 6 remote transistor is a substrate pnp (e.g., on a CPU die), connect the base of the pnp (See Datasheet)", 11 DXP6 "Combined Current Source and ADC Positive Input for Channel 6 Remote Diode. Connect DXP6 to the anode of a remote-diode-connected, temperature-sensing transistor. Leave DXP6 unconnected or connect to DXN6 if a remote diode is (See Datasheet)", 12 DXN7 "Cathode Input for Channel 7 Remote Diode. Connect the cathode of the channel 7 remote-diodeconnected transistor to DXN7. If the channel 7 remote transistor is a substrate pnp (e.g., on a CPU die), connect the base of the pnp (See Datasheet)", 13 DXP7 "Combined Current Source and ADC Positive Input for Channel 7 Remote Diode. Connect DXP7 to the anode of a remote-diode-connected, temperature-sensing transistor. Leave DXP7 unconnected or connect to DXN7 if a remote diode is (See Datasheet)", 14 ~{STBY} (in) "Active-Low Standby Input. Drive S\T\B\Y\ logic-low to place the MAX6581 in standby mode, or logichigh for normal mode. Temperature and threshold data are retained in standby mode.", 15 IC "Internally Connected. I.C. is internally connected to VCC. Connect I.C. to VCC or leave unconnected", 16 ~{OVERT} (oc) "Overtemperature Active-Low, Open-Drain Output. O\V\E\R\T\ asserts low when the temperature of any remote channel exceeds the programmed threshold limit.", 17 VCC (power) "Supply Voltage Input. Bypass to GND with a 0.1FF capacitor.", 18 ~{ALERT} (oc) "SMBus Alert (Interrupt), Active-Low, Open-Drain Output. A\L\E\R\T\ asserts low when the temperature of any channel crosses a programmed A\L\E\R\T\ high or low threshold.", 19 SMBDATA (io) "SMBus Serial-Data Input/Output. Connect SMBDATA to a pullup resistor.", 20 SMBCLK (in) "SMBus Serial-Clock Input. Connect SMBCLK to a pullup resistor.", 21 GND (power) "Ground", 22 NC "No Connection. Connect to other N.C. or leave unconnected", 23 DXP1 "Combined Current Source and ADC Positive Input for Channel 1 Remote Diode. Connect DXP1 to the anode of a remote-diode-connected, temperature-sensing transistor. Leave DXP1 unconnected or connect to DXN1 if a remote diode is (See Datasheet)", 24 DXN1 "Cathode Input for Channel 1 Remote Diode. Connect the cathode of the channel 1 remote-diodeconnected transistor to DXN1. If the channel 1 remote transistor is a substrate pnp (e.g., on a CPU die), connect the base of the pnp (See Datasheet)", 25 EP (power) "Exposed Pad. Connect EP to GND"